# Altium footprint library investigator_regulator.PcbLib: 17 footprints (part 1 of 2)
Each footprint in its own frame and in the unit in brackets; x right, y up, seen from the top. Pads: shape width x height; smd on the part's side, far side on the other; paste and mask are expansions set on the pad; w line width, h text height; cw(c..) or ccw(c..) is an arc to the next point about the centre after c.
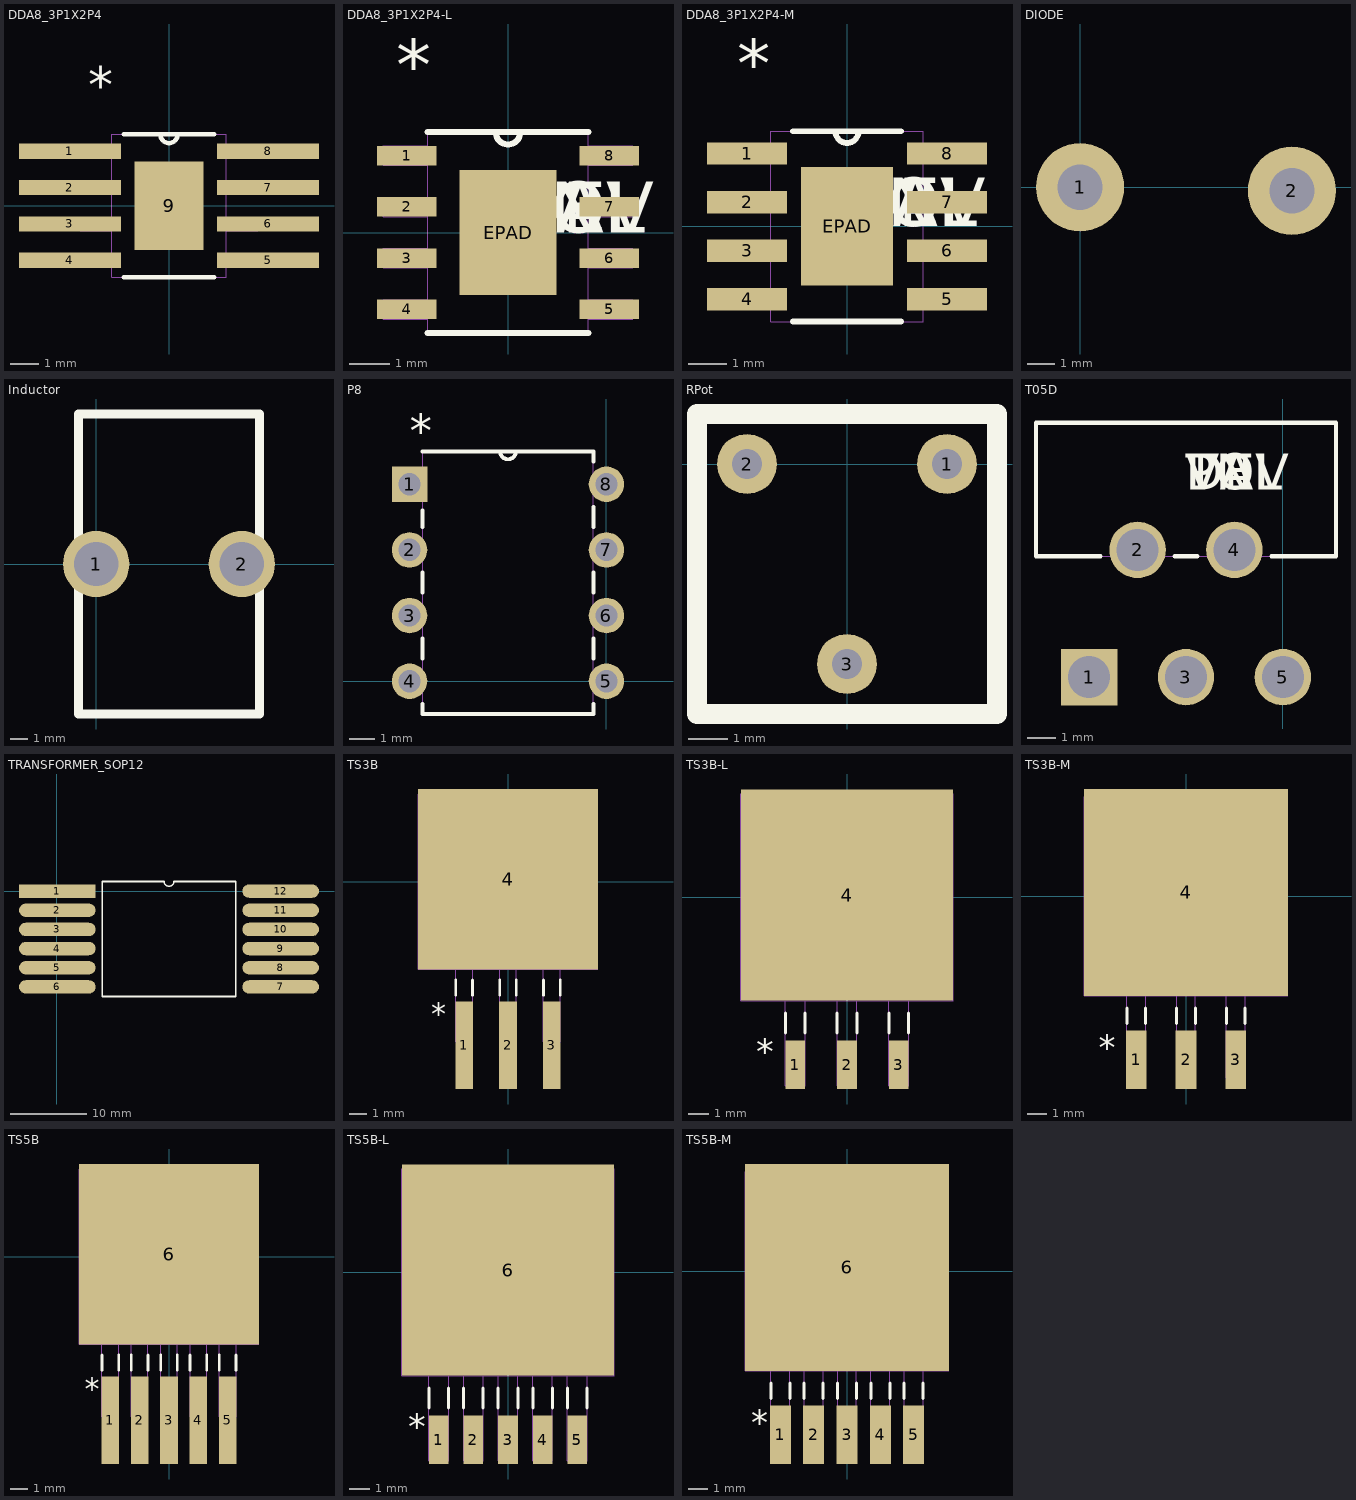
[diagram p0: the footprints below, top view; thin cyan lines are the x and y axes]

## DDA8_3P1X2P4 [mil]
pads (9):
  rect 140x21 smd: 1(-136,75) 2(-136,25) 3(-136,-25) 4(-136,-75) 5(136,-75) 6(136,-25) 7(136,25) 8(136,75)
  rect 94.49x122.05 smd paste-60.52: 9(0,0)
Top Overlay:
  lines w6: -62.08,-98 62.08,-98 ; -62.08,98 62.08,98 ; -12,98 ccw(c0,98) 12,98
  text "*" at -111,141 h50
Top Paste:
  region: 43.31,-3.94 -43.31,-3.94 -43.31,-57.09 43.31,-57.09
  region: 43.31,57.09 -43.31,57.09 -43.31,3.94 43.31,3.94
Mechanical 1:
  lines w0: -12,98 ccw(c0,98) 12,98 ; -122,-84.5 -78.5,-84.5 -78.5,-65.5 -122,-65.5 -122,-84.5 ; -122,-34.5 -78.5,-34.5 -78.5,-15.5 -122,-15.5 -122,-34.5 ; -122,15.5 -78.5,15.5 -78.5,34.5 -122,34.5 -122,15.5 ; -122,65.5 -78.5,65.5 -78.5,84.5 -122,84.5 -122,65.5 ; -78.5,-98 -78.5,98 78.5,98 78.5,-98 -78.5,-98 ; 78.5,-84.5 122,-84.5 122,-65.5 78.5,-65.5 78.5,-84.5 ; 78.5,-34.5 122,-34.5 122,-15.5 78.5,-15.5 78.5,-34.5 ; 78.5,15.5 122,15.5 122,34.5 78.5,34.5 78.5,15.5 ; 78.5,65.5 122,65.5 122,84.5 78.5,84.5 78.5,65.5

## DDA8_3P1X2P4-L [mil]
pads (9):
  rect 58x19 smd: 1(-99,75) 2(-99,25) 3(-99,-25) 4(-99,-75) 5(99,-75) 6(99,-25) 7(99,25) 8(99,75)
  rect 94.49x122.05 smd paste-60.52: EPAD(0,0)
Top Overlay:
  lines w6: -78.5,-98 78.5,-98 ; -78.5,98 78.5,98 ; -12,98 ccw(c0,98) 12,98
  text "*" at -109,139 h50
  text "PN" at 0,0 h50
  text "DEV" at 0,0 h50
  text "VAL" at 0,0 h50
  text "TOL" at 0,0 h50
Top Paste:
  region: 43.31,57.09 -43.31,57.09 -43.31,3.94 43.31,3.94
  region: 43.31,-3.94 -43.31,-3.94 -43.31,-57.09 43.31,-57.09
Mechanical 1:
  lines w0: -12,98 ccw(c0,98) 12,98 ; -122,-84.5 -122,-65.5 -78.5,-65.5 -78.5,-84.5 -122,-84.5 ; -122,-34.5 -122,-15.5 -78.5,-15.5 -78.5,-34.5 -122,-34.5 ; -122,15.5 -122,34.5 -78.5,34.5 -78.5,15.5 -122,15.5 ; -122,65.5 -122,84.5 -78.5,84.5 -78.5,65.5 -122,65.5 ; -78.5,-98 78.5,-98 78.5,98 -78.5,98 -78.5,-98 ; 78.5,-84.5 78.5,-65.5 122,-65.5 122,-84.5 78.5,-84.5 ; 78.5,-34.5 78.5,-15.5 122,-15.5 122,-34.5 78.5,-34.5 ; 78.5,15.5 78.5,34.5 122,34.5 122,15.5 78.5,15.5 ; 78.5,65.5 78.5,84.5 122,84.5 122,65.5 78.5,65.5
  text "*" at -109,139 h50
  text "RefDes2" at 0,0 h50

## DDA8_3P1X2P4-M [mil]
pads (9):
  rect 82x23 smd: 1(-103,75) 2(-103,25) 3(-103,-25) 4(-103,-75) 5(103,-75) 6(103,-25) 7(103,25) 8(103,75)
  rect 94.49x122.05 smd paste-60.52: EPAD(0,0)
Top Overlay:
  lines w6: -55.73,-98 55.73,-98 ; -55.73,98 55.73,98 ; -12,98 ccw(c0,98) 12,98
  text "TOL" at 0,0 h50
  text "VAL" at 0,0 h50
  text "DEV" at 0,0 h50
  text "PN" at 0,0 h50
  text "*" at -113,143 h50
Top Paste:
  region: 43.31,-3.94 -43.31,-3.94 -43.31,-57.09 43.31,-57.09
  region: 43.31,57.09 -43.31,57.09 -43.31,3.94 43.31,3.94
Mechanical 1:
  lines w0: -12,98 ccw(c0,98) 12,98 ; -122,-84.5 -78.5,-84.5 -78.5,-65.5 -122,-65.5 -122,-84.5 ; -122,-34.5 -78.5,-34.5 -78.5,-15.5 -122,-15.5 -122,-34.5 ; -122,15.5 -78.5,15.5 -78.5,34.5 -122,34.5 -122,15.5 ; -122,65.5 -78.5,65.5 -78.5,84.5 -122,84.5 -122,65.5 ; -78.5,-98 -78.5,98 78.5,98 78.5,-98 -78.5,-98 ; 78.5,-84.5 122,-84.5 122,-65.5 78.5,-65.5 78.5,-84.5 ; 78.5,-34.5 122,-34.5 122,-15.5 78.5,-15.5 78.5,-34.5 ; 78.5,15.5 122,15.5 122,34.5 78.5,34.5 78.5,15.5 ; 78.5,65.5 122,65.5 122,84.5 78.5,84.5 78.5,65.5
  text "RefDes2" at 0,0 h50
  text "*" at -113,143 h50

## DIODE [mil]
pads (2):
  round 125 hole 64: 1(0,0) 2(300,-5)

## Inductor [mil]
pads (2):
  round 150 hole 100: 1(0,0) 2(330,0)
Top Overlay:
  lines w20: -40,-340 -40,340 370,340 370,-340 -40,-340

## P8 [mil]
pads (8):
  rect 54x54 / inner round 60 / far side rect 54x54 hole 34: 1(-300,300)
  round 54 / inner round 60 / far side round 54 hole 34: 2(-300,200) 3(-300,100) 4(-300,0) 5(0,0) 6(0,100) 7(0,200) 8(0,300)
Top Overlay:
  lines w6: -280,-34.76 -280,-50 -20,-50 -20,-34.76 ; -280,34.76 -280,65.24 ; -280,134.76 -280,165.24 ; -280,234.76 -280,259.9 ; -280,350 -20,350 -20,334.76 ; -162,350 ccw(c-150,350) -138,350 ; -20,34.76 -20,65.24 ; -20,134.76 -20,165.24 ; -20,234.76 -20,265.24
  text "*" at -300,357 h50
Mechanical 1:
  lines w0: -162,350 ccw(c-150,350) -138,350 ; -20,183 -20,217 17,217 17,183 ; -317,-17 -317,17 -280,17 -280,-17 -317,-17 ; -317,83 -317,117 -280,117 -280,83 -317,83 ; -317,183 -317,217 -280,217 -280,183 -317,183 ; -317,283 -317,317 -280,317 -280,283 -317,283 ; -280,-50 -20,-50 -20,350 -280,350 -280,-50 ; -20,-17 -20,17 17,17 17,-17 -20,-17 ; -20,83 -20,117 17,117 17,83 -20,83 ; -20,283 -20,317 17,317 17,283 -20,283

## PCBComponent_1 [mil]

## RPot [mil]
pads (3):
  round 60 hole 30: 1(100,0) 2(-100,0) 3(0,-200)
Top Overlay:
  lines w20: -150,-250 -150,50 150,50 150,-250 -150,-250

## T05D [mil]
pads (5):
  rect 78x78 / inner round 60 / far side rect 78x78 hole 58: 1(-268,-519)
  round 78 / inner round 60 / far side round 78 hole 58: 2(-201,-343) 3(-134,-519) 4(-67,-343) 5(0,-519)
Top Overlay:
  lines w6: -252.32,-352 -341.5,-352 -341.5,-167 73.5,-167 73.5,-352 -15.68,-352 ; -149.68,-352 -118.32,-352
  text "TOL" at -134,-259.5 h50
  text "VAL" at -134,-259.5 h50
  text "DEV" at -134,-259.5 h50
  text "PN" at -134,-259.5 h50
Mechanical 1:
  lines w0: -341.5,-352 -341.5,-167 73.5,-167 73.5,-352 -341.5,-352
  text "RefDes2" at -134,-259.5 h50

## TRANSFORMER_SOP12 [mm]
pads (12):
  rect 10x1.75 smd: 1(0.048,0)
  oval 10x1.75 smd: 2(0.048,-2.5) 3(0.048,-5) 4(0.048,-7.5) 5(0.048,-10) 6(0.048,-12.5) 7(29.188,-12.5) 8(29.188,-10) 9(29.188,-7.5) 10(29.188,-5) 11(29.188,-2.5) 12(29.188,0)
Top Overlay:
  lines w0.2: 5.883,-13.75 5.883,1.25 13.993,1.25 ccw(c14.618,1.25) 15.243,1.25 23.353,1.25 23.353,-13.75 5.883,-13.75

## TS3B [mil]
pads (4):
  rect 40x200 smd: 1(-100,-373) 2(0,-373) 3(100,-373)
  rect 410x412 smd: 4(0,6)
Top Overlay:
  lines w6: -119,-259 -119,-224 ; -81,-259 -81,-224 ; -19,-259 -19,-224 ; 19,-259 19,-224 ; 81,-259 81,-224 ; 119,-259 119,-224
  text "*" at -175,-326 h50
Mechanical 1:
  lines w0: -205,-200 -205,200 205,200 205,-200 -205,-200 ; -119,-365 -81,-365 -81,-200 -119,-200 -119,-365 ; -19,-365 19,-365 19,-200 -19,-200 -19,-365 ; 81,-365 119,-365 119,-200 81,-200 81,-365

## TS3B-L [mil]
pads (4):
  rect 38x94 smd: 1(-100,-324) 2(0,-324) 3(100,-324)
  rect 410x408 smd: 4(0,4)
Top Overlay:
  lines w6: -119,-263 -119,-224 ; -81,-263 -81,-224 ; -19,-263 -19,-224 ; 19,-263 19,-224 ; 81,-263 81,-224 ; 119,-263 119,-224
  text "*" at -175,-324 h50
  text "PN" at 0,0 h50
  text "DEV" at 0,0 h50
  text "VAL" at 0,0 h50
  text "TOL" at 0,0 h50
Mechanical 1:
  lines w0: -205,-200 205,-200 205,200 -205,200 -205,-200 ; -119,-365 -119,-200 -81,-200 -81,-365 -119,-365 ; -19,-365 -19,-200 19,-200 19,-365 -19,-365 ; 81,-365 81,-200 119,-200 119,-365 81,-365
  text "*" at -175,-324 h50
  text "RefDes2" at 0,0 h50

## TS3B-M [mil]
pads (4):
  rect 42x118 smd: 1(-100,-328) 2(0,-328) 3(100,-328)
  rect 410x416 smd: 4(0,8)
Top Overlay:
  lines w6: -119,-255 -119,-224 ; -81,-255 -81,-224 ; -19,-255 -19,-224 ; 19,-255 19,-224 ; 81,-255 81,-224 ; 119,-255 119,-224
  text "TOL" at 0,0 h50
  text "VAL" at 0,0 h50
  text "DEV" at 0,0 h50
  text "PN" at 0,0 h50
  text "*" at -175,-328 h50
Mechanical 1:
  lines w0: -205,-200 -205,200 205,200 205,-200 -205,-200 ; -119,-365 -81,-365 -81,-200 -119,-200 -119,-365 ; -19,-365 19,-365 19,-200 -19,-200 -19,-365 ; 81,-365 119,-365 119,-200 81,-200 81,-365
  text "RefDes2" at 0,0 h50
  text "*" at -175,-328 h50

## TS5B [mil]
pads (6):
  rect 40x200 smd: 1(-134,-373) 2(-67,-373) 3(0,-373) 4(67,-373) 5(134,-373)
  rect 410x412 smd: 6(0,6)
Top Overlay:
  lines w6: -153,-259 -153,-224 ; -115,-259 -115,-224 ; -86,-259 -86,-224 ; -48,-259 -48,-224 ; -19,-259 -19,-224 ; 19,-259 19,-224 ; 48,-259 48,-224 ; 86,-259 86,-224 ; 115,-259 115,-224 ; 153,-259 153,-224
  text "*" at -192.5,-326 h50
Mechanical 1:
  lines w0: -205,-200 205,-200 205,200 -205,200 -205,-200 ; -153,-365 -153,-200 -115,-200 -115,-365 -153,-365 ; -86,-365 -86,-200 -48,-200 -48,-365 -86,-365 ; -19,-365 -19,-200 19,-200 19,-365 -19,-365 ; 48,-365 48,-200 86,-200 86,-365 48,-365 ; 115,-365 115,-200 153,-200 153,-365 115,-365

## TS5B-L [mil]
pads (6):
  rect 38x94 smd: 1(-134,-324) 2(-67,-324) 3(0,-324) 4(67,-324) 5(134,-324)
  rect 410x408 smd: 6(0,4)
Top Overlay:
  lines w6: -153,-263 -153,-224 ; -115,-263 -115,-224 ; -86,-263 -86,-224 ; -48,-263 -48,-224 ; -19,-263 -19,-224 ; 19,-263 19,-224 ; 48,-263 48,-224 ; 86,-263 86,-224 ; 115,-263 115,-224 ; 153,-263 153,-224
  text "*" at -192.5,-324 h50
  text "PN" at 0,0 h50
  text "DEV" at 0,0 h50
  text "VAL" at 0,0 h50
  text "TOL" at 0,0 h50
Mechanical 1:
  lines w0: -205,-200 205,-200 205,200 -205,200 -205,-200 ; -153,-365 -153,-200 -115,-200 -115,-365 -153,-365 ; -86,-365 -86,-200 -48,-200 -48,-365 -86,-365 ; -19,-365 -19,-200 19,-200 19,-365 -19,-365 ; 48,-365 48,-200 86,-200 86,-365 48,-365 ; 115,-365 115,-200 153,-200 153,-365 115,-365
  text "*" at -192.5,-324 h50
  text "RefDes2" at 0,0 h50

## TS5B-M [mil]
pads (6):
  rect 42x118 smd: 1(-134,-328) 2(-67,-328) 3(0,-328) 4(67,-328) 5(134,-328)
  rect 410x416 smd: 6(0,8)
Top Overlay:
  lines w6: -153,-255 -153,-224 ; -115,-255 -115,-224 ; -86,-255 -86,-224 ; -48,-255 -48,-224 ; -19,-255 -19,-224 ; 19,-255 19,-224 ; 48,-255 48,-224 ; 86,-255 86,-224 ; 115,-255 115,-224 ; 153,-255 153,-224
  text "*" at -192.5,-328 h50
Mechanical 1:
  lines w0: -205,-200 -205,200 205,200 205,-200 -205,-200 ; -153,-365 -115,-365 -115,-200 -153,-200 -153,-365 ; -86,-365 -48,-365 -48,-200 -86,-200 -86,-365 ; -19,-365 19,-365 19,-200 -19,-200 -19,-365 ; 48,-365 86,-365 86,-200 48,-200 48,-365 ; 115,-365 153,-365 153,-200 115,-200 115,-365
  text "*" at -192.5,-328 h50